# EAGLE library part MC33926 (library SparkFun_ESP32_Power_Control_Shield_Temp)
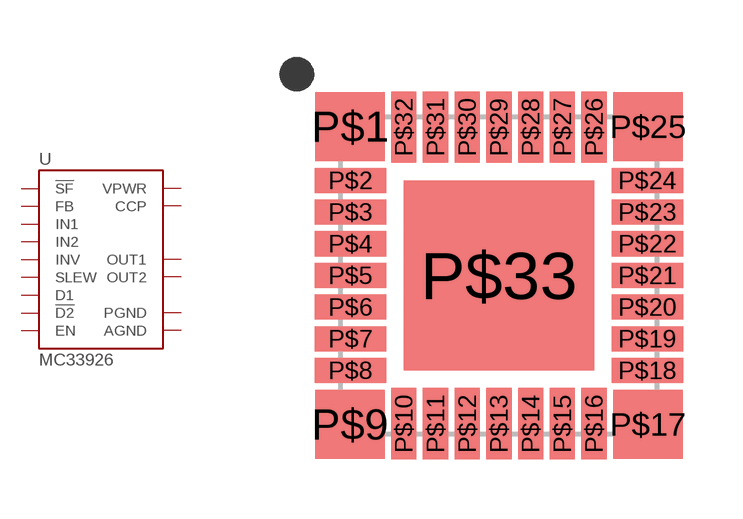
[diagram p0: symbol with the pads of 32-PQFN; footprint 32-PQFN]

Designator prefix U

## MC33926 (PROD_ID: IC-13616)  [32-PQFN]
P$1  IN2
P$2  IN1
P$3  SLEW
P$4  VPWR
P$5  AGND
P$6  VPWR
P$7  INV
P$8  FB
P$10  EN
P$11  VPWR
P$12  OUT1
P$13  OUT1
P$14  OUT1
P$15  OUT1
P$16  !D2
P$18  PGND
P$19  PGND
P$20  PGND
P$21  !SF
P$22  PGND
P$23  PGND
P$24  PGND
P$26  D1
P$27  OUT2
P$28  OUT2
P$29  OUT2
P$30  OUT2
P$31  VPWR
P$32  CCP
P$33  AGND

## Footprint 32-PQFN (pad centres in mm)
smd 1.75 x 1.75: P$1 -3.754,3.753; P$9 -3.754,-3.767; P$17 3.766,-3.767; P$25 3.766,3.753
smd 1.8 x 0.635: P$2 -3.74,2.393; P$3 -3.74,1.593; P$4 -3.74,0.793; P$5 -3.74,-0.007; P$6 -3.74,-0.807; P$7 -3.74,-1.607; P$8 -3.74,-2.407; P$18 3.752,-2.407; P$19 3.752,-1.607; P$20 3.752,-0.807; P$21 3.752,-0.007; P$22 3.752,0.793; P$23 3.752,1.593; P$24 3.752,2.393
smd 0.635 x 1.8: P$10 -2.394,-3.753; P$11 -1.594,-3.753; P$12 -0.794,-3.753; P$13 0.006,-3.753; P$14 0.806,-3.753; P$15 1.606,-3.753; P$16 2.406,-3.753; P$26 2.406,3.739; P$27 1.606,3.739; P$28 0.806,3.739; P$29 0.006,3.739; P$30 -0.794,3.739; P$31 -1.594,3.739; P$32 -2.394,3.739
smd 4.8 x 4.8: P$33 0.006,-0.007